# EAGLE library part SI-52003-F (library ethernet_poe)
https://www.digikey.com/products/en?keywords=si-52003
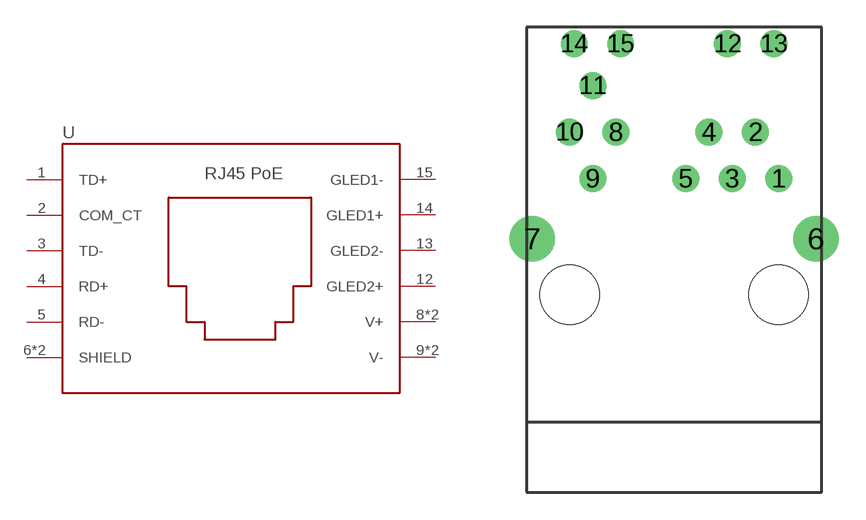
[diagram p3: symbol with the pads of SI-52003-F; footprint SI-52003-F]

Designator prefix -

## SI-52003-F  [SI-52003-F]
1  TD+  pas
2  COM_CT  pas
3  TD-  pas
4  RD+  pas
5  RD-  pas
6  SHIELD  pas
7  SHIELD  pas
8  V+  pas
9  V-  pas
10  V+  pas
11  V-  pas
12  GLED2+  pas
13  GLED2-  pas
14  GLED1+  pas
15  GLED1-  pas

## Footprint SI-52003-F (pad centres in mm)
POE Ethernet jack SI-52003-F https://www.digikey.com/products/en?keywords=si-52003
drill 0.965: 1 5.08,3.81; 2 3.81,6.35; 3 2.54,3.81; 4 1.27,6.35; 5 0,3.81; 8 -3.81,6.35; 9 -5.08,3.81; 10 -6.35,6.35; 11 -5.08,8.89; 12 2.286,11.176; 13 4.826,11.176; 14 -6.096,11.176; 15 -3.556,11.176
drill 1.651: 6 7.112,0.508; 7 -8.382,0.508
hole 3.251 at 5.08,-2.54
hole 3.251 at -6.35,-2.54